# Altium schematic symbol library DRV8350RH-RGZ.SchLib: 1 symbol
Pins are listed as number, name and electrical type; pins without a type are passive.

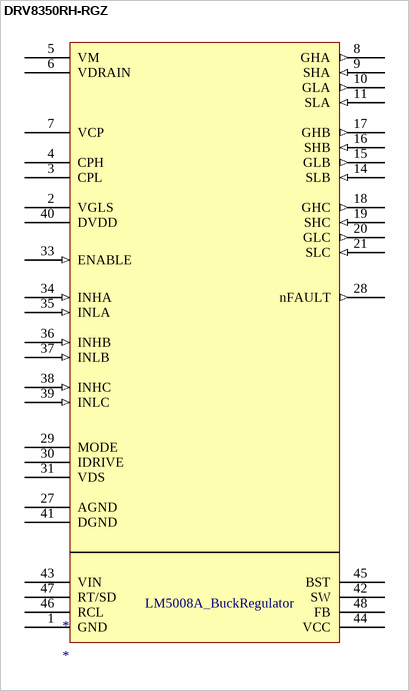
[diagram p0: symbol DRV8350RH-RGZ]

## DRV8350RH-RGZ
designator *
footprint DRV8350RH-RGZ_footprint
pins: 1 GND, 2 VGLS, 3 CPL, 4 CPH, 5 VM (power), 6 VDRAIN (power), 7 VCP, 8 GHA (out), 9 SHA (in), 10 GLA (out), 11 SLA (in), 14 SLB (in), 15 GLB (out), 16 SHB (in), 17 GHB (out), 18 GHC (out), 19 SHC (in), 20 GLC (out), 21 SLC (in), 27 AGND, 28 nFAULT (out), 29 MODE, 30 IDRIVE, 31 VDS, 33 ENABLE (in), 34 INHA (in), 35 INLA (in), 36 INHB (in), 37 INLB (in), 38 INHC (in), 39 INLC (in), 40 DVDD (power), 41 DGND, 42 SW, 43 VIN (power), 44 VCC, 45 BST, 46 RCL, 47 RT/SD, 48 FB
text: LM5008A_BuckRegulator